# EAGLE library part 4012BT (library EW_IC_74_Logic)
4-input Nand. Category: Gates Manufacturer: Generic
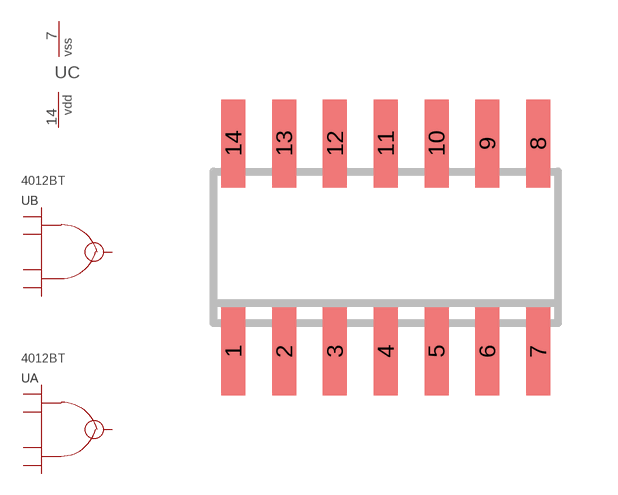
[diagram p85: symbol with the pads of SO14; footprint SO14]

Designator prefix U; gates A=NAND_4 B=NAND_4 C=PWRN_1

## 4012BT  [SO14]
1  A:Y  pwr
2  A:A  pwr
3  A:B  pwr
4  A:C  pwr
5  A:D  pwr
7  C:VSS  pwr
9  B:D  pwr
10  B:C  pwr
11  B:B  pwr
12  B:A  pwr
13  B:Y  pwr
14  C:VDD  pwr

## Footprint SO14 (pad centres in mm)
SMALL OUTLINE INTEGRATED CIRCUIT body 3.9 mm/JEDEC MS-012AC
smd 0.6 x 2.2: 1 -3.81,-2.6; 2 -2.54,-2.6; 3 -1.27,-2.6; 4 0,-2.6; 5 1.27,-2.6; 6 2.54,-2.6; 7 3.81,-2.6; 8 3.81,2.6; 9 2.54,2.6; 10 1.27,2.6; 11 0,2.6; 12 -1.27,2.6; 13 -2.54,2.6; 14 -3.81,2.6